# Altium schematic symbol library 2.0 - 保险丝-晶振-光耦.SchLib: 19 symbols
Pins are listed as number, name and electrical type; pins without a type are passive.

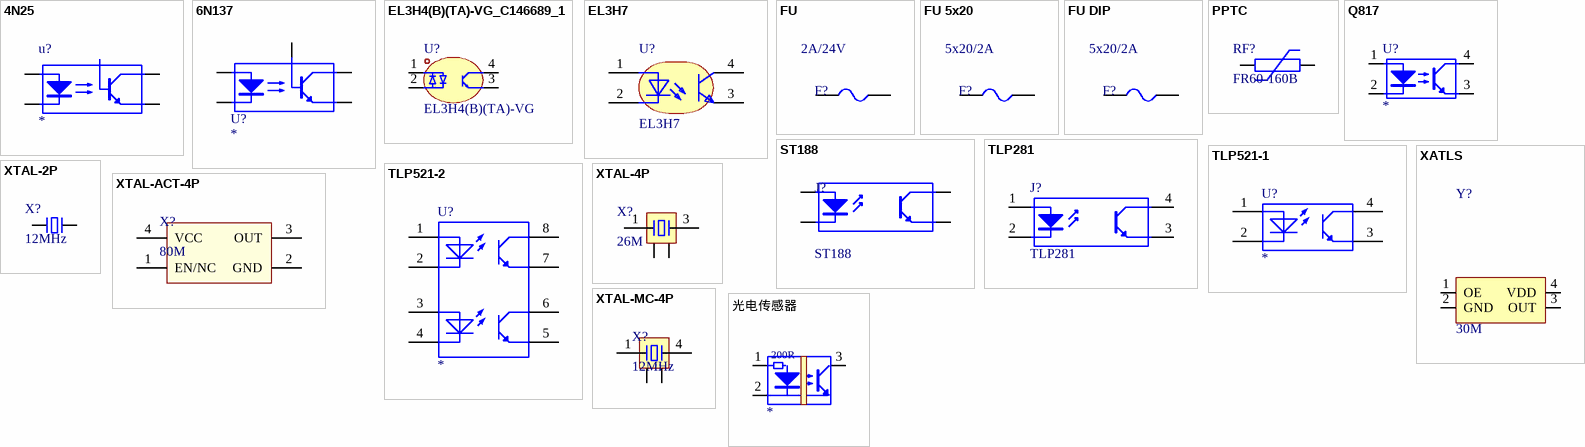
[diagram p0: symbols 4N25 to 光电传感器]

## 4N25
designator u?
技术支持，联系售后: https://shop463601444.taobao.com; 唯一出售店铺网址: https://shop463601444.taobao.com
footprint DIP-6 (淘宝ID:黄晶宝石   店铺网址:https://shop463601444.taobao.com)
pins: 1 LED Anode, 2 LED Cathode, 3 Emitter, 4 Collector

## 6N137
designator U?
Opto Isolator; 技术支持，联系售后: https://shop463601444.taobao.com
simulation model 6N137 (SUBCKT)
pins: 1 LED Anode, 2 LED Cathode, 3 empty (hiz) hidden to empty, 4 Emitter, 5 Collector, 6 Base

## EL3H4(B)(TA)-VG_C146689_1
designator U?, comment EL3H4(B)(TA)-VG
双向光耦; Manufacturer: EVERLIGHT(亿光); Device: EL3H4(B)(TA)-VG_C146689; Add into BOM: yes; Symbol: EL3H4(B)(TA)-VG; LCSC Part Name: EL3H4(B)(TA)-VG; Supplier Part: C146689; Manufacturer Part: EL3H4(B)(TA)-VG; Supplier Footprint: SOP-4-1.27mm; JLCPCB Part Class: 扩展库; Datasheet: https://www.everlighteurope.com/custom/files/datasheets/DPC-0000006.pdf; Supplier: LCSC; Convert to PCB: yes
footprint SOP4 (间距1.27mm     封装库来自淘宝卖家 ID：黄晶宝石)
pins: 1 A, 2 C, 3 E, 4 C

## EL3H7
designator U?
光耦; Manufacturer: EVERLIGHT(亿光); Symbol: EL3H7(C)(TA)-G; Add into BOM: yes; Input voltage type: DC; Output Type: 光电三极管; Voltage - Forward(Vf): 1.2V; Output Current: 50mA; Isolation Voltage(Vrms): 3.75kV; Reverse Voltage: 6V; Load Voltage: 80V; Number of Outputs: 1; Vce Saturation(VCE(sat)): 200mV@10mA,1mA; Rise time: 5us; Fall time: 3us; Current Transfer Ratio (CTR) Minimum: 50%; Current Transfer Ratio (CTR) Maximum/Saturation Value: 600%; Device: EL3H7(C)(TA)-G; LCSC Part Name: DC输入 隔离电压(rms):3750V; Supplier Part: C92243; Manufacturer Part: EL3H7(C)(TA)-G; Supplier Footprint: SSOP-4-1.27mm; JLCPCB Part Class: 扩展库; Datasheet: https://www.everlighteurope.com/custom/files/datasheets/DPC-0000031.pdf; Supplier: LCSC; Convert to PCB: yes; Operating Temperature: -55℃~+110℃
footprint SSOP4_L2.7-W4.4-P1.27-LS7.0-BL
pins: 1, 2, 3, 4

## FU
designator F?, comment 2A/24V
贴片保险丝; 版权归属: 封装库来自淘宝卖家 ID：黄晶宝石; BOM名称: 贴片保险丝; 学习资源: https://shop463601444.taobao.com
footprint FU 0402 (贴片保险丝)
footprint FU 0603 (贴片保险丝)
footprint FU 0805 (贴片保险丝)
footprint FU 1206 (贴片保险丝)
footprint FU 1210 (贴片保险丝)
footprint FU 1812 (贴片保险丝)
pins: 1, 2

## FU 5x20
designator F?, comment 5x20/2A
5*20保险丝; 版权归属: 封装库来自淘宝卖家 ID：黄晶宝石; BOM名称: 5*20保险丝; 学习资源: https://shop463601444.taobao.com
footprint FU BLX-A (BLX-A型保险丝座)
footprint FU 5x20 (5*20保险管底座夹子)
pins: 1, 2

## FU DIP
designator F?, comment 5x20/2A
直插保险丝; 版权归属: 封装库来自淘宝卖家 ID：黄晶宝石; BOM名称: 直插保险丝; 学习资源: https://shop463601444.taobao.com
footprint FU 4x16 (4*16mm(直径，脚距）)
footprint FU 4x16_V (4*16mm(直径，脚距）)
pins: 1, 2

## PPTC
designator RF?, comment FR60-160B
PPTC自恢复保险丝; 版权归属: 封装库来自淘宝卖家 ID：黄晶宝石; BOM名称: PPTC自恢复保险丝; 学习资源: https://shop463601444.taobao.com
footprint FR60-160B (直径15.5mm，厚度3mm，脚距5.1mm)
pins: 1, 2

## Q817
designator U?
唯一出售店铺网址: https://shop463601444.taobao.com
pins: 1 LED Anode, 2 LED Cathode, 3 Emitter, 4 Collector

## ST188
designator J?
反射式光电传感器; Published: 24-Mar-1999; LatestRevisionDate: 04-Mar-2005; LatestRevisionNote: Sch pins 3 & 4 Swapped.; DatasheetDocument: Nov-2003; PackageReference: DIP-4; Publisher: Altium Limited
footprint ST188 (反射光电传感器)
pins: 1 A "Anode", 2 K "Cathode", 3 E "Emitter", 4 C "Collector"

## TLP281
designator J?
光耦; Published: 24-Mar-1999; LatestRevisionDate: 04-Mar-2005; LatestRevisionNote: Sch pins 3 & 4 Swapped.; DatasheetDocument: Nov-2003; PackageReference: DIP-4; Publisher: Altium Limited
footprint SOP127P710X350-4N (SOP, 4-Leads, Body 2.7x4.5mm (max), Pitch 1.27mm, IPC Medium Density)
pins: 1 A "Anode", 2 K "Cathode", 3 E "Emitter", 4 C "Collector"

## TLP521-1
designator U?
唯一出售店铺网址: https://shop463601444.taobao.com
footprint DIP4
pins: 1, 2, 3, 4

## TLP521-2
designator U?
技术支持，联系售后: https://shop463601444.taobao.com
footprint DIP8
pins: 1, 2, 3, 4, 5, 6, 7, 8

## XATLS
designator Y?  value 30M  (hidden comment: XATLS)
贴片有源晶振; 封装库来自淘宝卖家 ID：黄晶宝石: https://shop463601444.taobao.com
footprint X-CPX75
pins: 1 OE, 2 GND, 3 OUT, 4 VDD

## XTAL-2P
designator X?, comment 12MHz
2脚无源脚晶振; 版权归属: 封装库来自淘宝卖家 ID：黄晶宝石; BOM名称: 2脚无源脚晶振; 学习资源: https://shop463601444.taobao.com
footprint OSC HC-49S
footprint OSC 455E-LI (3.6mm*7mm*9mm(长*宽*高)  脚距5mm)
footprint OSC 455E-WI (3.6mm*7mm*9mm(长*宽*高)  脚距5mm)
footprint OSC 3215-2P (3.2*1.5*0.6mm(长宽高))
footprint OSC 5032-2P (5mm*3.2mm*0.8mm(长*宽*高))
footprint OSC 6035-2P (6mm*3.5mm*1mm(长*宽*高))
footprint OSC 7050-2P (7mm*5mm*1.3mm(长*宽*高))
footprint OSC 8045-2P (8mm*4.5mm*1.8mm(长*宽*高))
footprint OSC-2x6-LI (脚距：1.6mm)
footprint OSC-2x6-WI-A (脚距：1.6mm)
footprint OSC-2x6-WI-B (脚距：1.6mm)
footprint OSC-2x6-WS (脚距：1.6mm)
footprint OSC-3x8-LI (脚距：2mm)
footprint OSC-3x8-WI-A (脚距：2mm)
footprint OSC-3x8-WI-B (脚距：2mm)
footprint OSC-3x8-WS (脚距：2mm)
footprint OSC-3x10-LI (脚距：2mm)
footprint OSC-3x10-WI-A (脚距：2mm)
footprint OSC-3x10-WI-B (脚距：2mm)
footprint OSC-3x10-WS (脚距：2mm)
footprint OSC HC-49SMD
footprint OSC HC-49U
footprint OSC UM-1
footprint OSC UM-5
pins: 1, 2

## XTAL-4P
designator X?, comment 26M
4脚无源晶振; 版权归属: 封装库来自淘宝卖家 ID：黄晶宝石; BOM名称: 4脚无源晶振; 学习资源: https://shop463601444.taobao.com
footprint OSC 1612-4P (1.6*1.2*0.35mm（长宽高）)
footprint OSC 2025-4P (2*2.5*0.55mm(长宽高))
footprint OSC 3225-4P (3.2*2.5*0.7mm(长宽高))
footprint OSC 4025-4P (4*2.5*0.7mm(长宽高))
footprint OSC 5032-4P (5mm*3.2mm*0.8mm(长*宽*高))
footprint OSC 6035-4P (6mm*3.5mm*1mm(长*宽*高))
footprint OSC 7050-4P (7mm*5mm*1.3mm(长*宽*高))
footprint OSC 8045-4P (8mm*4.5mm*1.6mm(长*宽*高))
footprint OSC 8045-4P-C (8mm*4.5mm*1.8mm(长*宽*高))
pins: 1, 2, 3, 4

## XTAL-ACT-4P
designator X?, comment 80M
4脚有源晶振; 版权归属: 封装库来自淘宝卖家 ID：黄晶宝石; BOM名称: 4脚有源晶振; 学习资源: https://shop463601444.taobao.com
footprint OSC 1612-4P (1.6*1.2*0.35mm（长宽高）)
footprint OSC 2025-4P (2*2.5*0.55mm(长宽高))
footprint OSC 3225-4P (3.2*2.5*0.7mm(长宽高))
footprint OSC 4025-4P (4*2.5*0.7mm(长宽高))
footprint OSC 5032-4P (5mm*3.2mm*0.8mm(长*宽*高))
footprint OSC 6035-4P (6mm*3.5mm*1mm(长*宽*高))
footprint OSC 7050-4P (7mm*5mm*1.3mm(长*宽*高))
footprint OSC 8045-4P (8mm*4.5mm*1.6mm(长*宽*高))
footprint OSC 8045-4P-C (8mm*4.5mm*1.8mm(长*宽*高))
pins: 1 EN/NC, 2 GND, 3 OUT, 4 VCC

## XTAL-MC-4P
designator X?, comment 12MHz
MC系列4脚晶振; BOM名称: 2脚无源脚晶振; 版权归属: 封装库来自淘宝卖家 ID：黄晶宝石; 学习资源: https://shop463601444.taobao.com
footprint OSC MC-146 (6.7mm*1.5mm*1.4mm(长*宽*高))
footprint OSC MC-156 (7.1mm*2.5mm*1.5mm(长*宽*高))
footprint OSC MC-306 (8mm*3.2mm*2.54mm(长*宽*高))
footprint OSC MC-406 (9.6mm*4.06mm*3.6mm(长*宽*高))
footprint OSC MC-405 (9.6mm*4.06mm*3.6mm(长*宽*高))
pins: 1, 2, 3, 4

## 光电传感器
designator ?
唯一出售店铺网址: https://shop463601444.taobao.com
pins: 1 LED Anode, 2 LED Cathode, 3 Emitter
text: 200R